# Altium integrated library RAK3172_RF_Generator.IntLib: 16 symbols
Pins are listed as number, name and electrical type; pins without a type are passive.

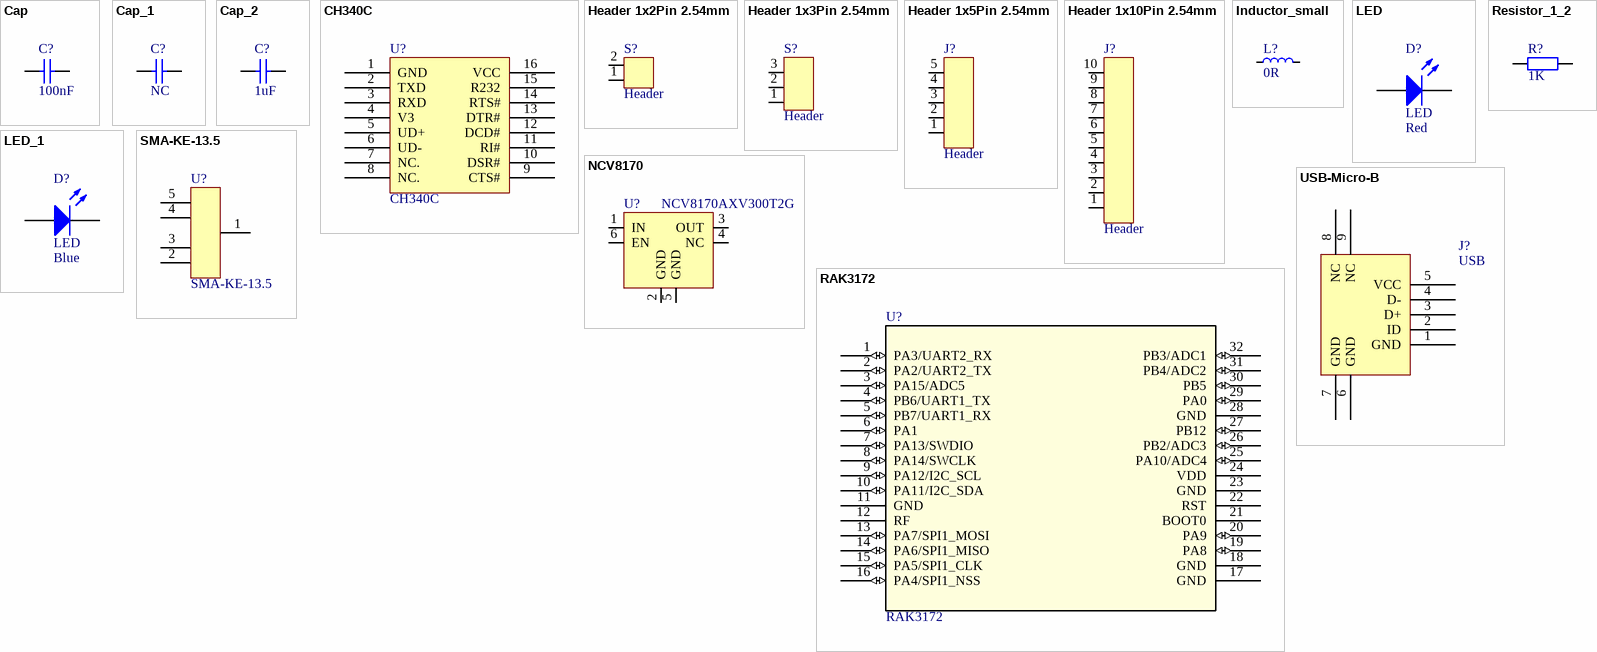
[diagram p0: symbols Cap to USB-Micro-B]

## Cap
designator C?  value 100nF  (hidden comment: Cap)
Capacitor SMD; Published: 8-Jun-2000; LatestRevisionDate: 05-oct-2007  -  Semtech; LatestRevisionNote: Re-released for DXP Platform.; Publisher: Altium Limited
simulation model CAP (Semiconductor Capacitor)
signal-integrity model Cap Semi
footprint rlc_402_smd (Chip SMD component 402; Body 1.0 x 0.5 mm (LxW typ))
footprint rlc_603_smd (Chip SMD component 603; Body 1.6 x 0.8mm (LxW typ))
footprint rlc_805_smd (Chip SMD component 805; Body 2.0 x 1.25 mm (LxW typ))
footprint rlc_1206_smd (Chip SMD component 1206; Body 3.2 x 1.6 mm (LxW typ))
footprint rlc_201_smd (Chip SMD component 201; Body 0.6 x 0.3 mm (LxW typ))
footprint rlc_201_smd_small (Chip SMD component 201; Body 0.6 x 0.3 mm (LxW typ); small footprint)
footprint rlc_805_smd (Chip SMD component 805; Body 2.0 x 1.25 mm (LxW typ))
footprint rlc_1206_smd_small (Chip SMD component 1206; Body 3.2 x 1.6 mm (LxW typ))
footprint rlc_402_smd_small (Chip SMD component 402; Body 1.0 x 0.5 mm (LxW typ);small footprint)
footprint rlc_603_smd_small (Chip SMD component 603; Body 1.6 x 0.8mm (LxW typ); small footprint)
footprint rlc_805_smd_small (Chip SMD component 805; Body 2.0 x 1.25 mm (LxW typ); small footprint)
footprint rlc_201_smd (Chip SMD component 201; Body 0.6 x 0.3 mm (LxW typ))
pins: 1, 2

## Cap_1
designator C?, comment value NC  (hidden comment: Cap)
Capacitor SMD; Published: 8-Jun-2000; LatestRevisionDate: 05-oct-2007  -  Semtech; LatestRevisionNote: Re-released for DXP Platform.; Publisher: Altium Limited
simulation model CAP (Semiconductor Capacitor)
signal-integrity model Cap Semi
footprint rlc_402_smd (Chip SMD component 402; Body 1.0 x 0.5 mm (LxW typ))
footprint rlc_603_smd (Chip SMD component 603; Body 1.6 x 0.8mm (LxW typ))
footprint rlc_805_smd (Chip SMD component 805; Body 2.0 x 1.25 mm (LxW typ))
footprint rlc_1206_smd (Chip SMD component 1206; Body 3.2 x 1.6 mm (LxW typ))
footprint rlc_201_smd (Chip SMD component 201; Body 0.6 x 0.3 mm (LxW typ))
footprint rlc_201_smd_small (Chip SMD component 201; Body 0.6 x 0.3 mm (LxW typ); small footprint)
footprint rlc_805_smd (Chip SMD component 805; Body 2.0 x 1.25 mm (LxW typ))
footprint rlc_1206_smd_small (Chip SMD component 1206; Body 3.2 x 1.6 mm (LxW typ))
footprint rlc_402_smd_small (Chip SMD component 402; Body 1.0 x 0.5 mm (LxW typ);small footprint)
footprint rlc_603_smd_small (Chip SMD component 603; Body 1.6 x 0.8mm (LxW typ); small footprint)
footprint rlc_805_smd_small (Chip SMD component 805; Body 2.0 x 1.25 mm (LxW typ); small footprint)
footprint rlc_201_smd (Chip SMD component 201; Body 0.6 x 0.3 mm (LxW typ))
pins: 1, 2

## Cap_2
designator C?, comment value 1uF  (hidden comment: Cap)
Capacitor SMD; Published: 8-Jun-2000; LatestRevisionDate: 05-oct-2007  -  Semtech; LatestRevisionNote: Re-released for DXP Platform.; Publisher: Altium Limited
simulation model CAP (Semiconductor Capacitor)
signal-integrity model Cap Semi
footprint rlc_402_smd (Chip SMD component 402; Body 1.0 x 0.5 mm (LxW typ))
footprint rlc_603_smd (Chip SMD component 603; Body 1.6 x 0.8mm (LxW typ))
footprint rlc_805_smd (Chip SMD component 805; Body 2.0 x 1.25 mm (LxW typ))
footprint rlc_1206_smd (Chip SMD component 1206; Body 3.2 x 1.6 mm (LxW typ))
footprint rlc_201_smd (Chip SMD component 201; Body 0.6 x 0.3 mm (LxW typ))
footprint rlc_201_smd_small (Chip SMD component 201; Body 0.6 x 0.3 mm (LxW typ); small footprint)
footprint rlc_805_smd (Chip SMD component 805; Body 2.0 x 1.25 mm (LxW typ))
footprint rlc_1206_smd_small (Chip SMD component 1206; Body 3.2 x 1.6 mm (LxW typ))
footprint rlc_402_smd_small (Chip SMD component 402; Body 1.0 x 0.5 mm (LxW typ);small footprint)
footprint rlc_603_smd_small (Chip SMD component 603; Body 1.6 x 0.8mm (LxW typ); small footprint)
footprint rlc_805_smd_small (Chip SMD component 805; Body 2.0 x 1.25 mm (LxW typ); small footprint)
footprint rlc_201_smd (Chip SMD component 201; Body 0.6 x 0.3 mm (LxW typ))
pins: 1, 2

## CH340C
designator U?
USB to Serial CH340 IC
footprint CH340C
pins: 1 GND, 2 TXD, 3 RXD, 4 V3, 5 UD+, 6 UD-, 7 NC., 8 NC., 9 CTS#, 10 DSR#, 11 RI#, 12 DCD#, 13 DTR#, 14 RTS#, 15 R232, 16 VCC

## Header 1x2Pin 2.54mm
designator S?, comment Header
Header 1x2Pin 2.54mm
footprint Header 1x2 Pin 2.54mm
footprint KF120-2-V (Domino 2Pin 2.54mm Pitch)
pins: 1, 2

## Header 1x3Pin 2.54mm
designator S?, comment Header
Header 1x2Pin 2.54mm
footprint KF120-3-V (Domino 2Pin 2.54mm Pitch)
footprint HEADER 1X3PIN 2.54mm
pins: 1, 2, 3

## Header 1x5Pin 2.54mm
designator J?, comment Header
Header 1x5Pin 2.54mm
footprint HEADER 1X5PIN 2.54mm
pins: 1, 2, 3, 4, 5

## Header 1x10Pin 2.54mm
designator J?, comment Header
Header 1x10Pin 2.54mm
footprint HEADER 1X10PIN 2.54mm
pins: 1, 2, 3, 4, 5, 6, 7, 8, 9, 10

## Inductor_small
designator L?, comment value 0R  (hidden comment: Inductor small symbol)
Inductor; Code_IEC: 1005; Published: 8-Jun-2000; LatestRevisionDate: 05-oct-2007  -  Semtech; LatestRevisionNote: Re-released for DXP Platform.; Publisher: Altium Limited; Code_JEITA: 0402
footprint rlc_1812_smd (Chip SMD component 1812; Body 4.5 x 3.2 mm (LxW typ))
footprint L2813
footprint L4818
footprint L4818_small (L4818 Size for LPS4018 - 3.9x3.9mm)
footprint rlc_201_smd (Chip SMD component 201; Body 0.6 x 0.3 mm (LxW typ))
footprint rlc_201_smd_small (Chip SMD component 201; Body 0.6 x 0.3 mm (LxW typ); small footprint)
footprint rlc_402_smd (Chip SMD component 402; Body 1.0 x 0.5 mm (LxW typ))
footprint rlc_402_smd_small (Chip SMD component 402; Body 1.0 x 0.5 mm (LxW typ);small footprint)
footprint rlc_603_smd (Chip SMD component 603; Body 1.6 x 0.8mm (LxW typ))
footprint rlc_603_smd_small (Chip SMD component 603; Body 1.6 x 0.8mm (LxW typ); small footprint)
footprint rlc_805_smd (Chip SMD component 805; Body 2.0 x 1.25 mm (LxW typ))
footprint rlc_805_smd_small (Chip SMD component 805; Body 2.0 x 1.25 mm (LxW typ); small footprint)
footprint rlc_1206_smd_small (Chip SMD component 1206; Body 3.2 x 1.6 mm (LxW typ))
pins: 1, 2

## LED
designator D?  value Red
LatestRevisionDate: 05-oct-2007  -  Semtech
footprint CD1005-0402 (Chip Diode; Body 1.0 x 0.5 mm (LxW typ))
footprint CD1608-0603 (Chip Diode; Body 1.6 x 0.8 mm (LxW typ))
footprint CD2012-0805 (Chip Diode; Body 2.0 x 1.3 mm (LxW typ))
footprint Reverse LED 3216 - 1206-hole round (Reverse Package Chip LED; Body 3.2 x 1.6 mm (LxW typ))
footprint Reverse LED 3216 - 1206 - hole slot (Reverse Package Chip LED; Body 3.2 x 1.6 mm (LxW typ))
footprint LGM676 LED (Chip Diode; Body 2.1 x 1.4 mm (LxW typ))
pins: 1 A, 2 K

## LED_1
designator D?, comment LED  value Blue
LatestRevisionDate: 05-oct-2007  -  Semtech
footprint CD1005-0402 (Chip Diode; Body 1.0 x 0.5 mm (LxW typ))
footprint CD1608-0603 (Chip Diode; Body 1.6 x 0.8 mm (LxW typ))
footprint CD2012-0805 (Chip Diode; Body 2.0 x 1.3 mm (LxW typ))
footprint Reverse LED 3216 - 1206-hole round (Reverse Package Chip LED; Body 3.2 x 1.6 mm (LxW typ))
footprint Reverse LED 3216 - 1206 - hole slot (Reverse Package Chip LED; Body 3.2 x 1.6 mm (LxW typ))
footprint LGM676 LED (Chip Diode; Body 2.1 x 1.4 mm (LxW typ))
pins: 1 A, 2 K

## NCV8170
designator U?, comment NCV8170AXV300T2G
Linear Voltage Regulator IC Positive Fixed 1 Output  150mA SOT-563-6
footprint SOT-563
pins: 1 IN, 2 GND, 3 OUT, 4 NC, 5 GND, 6 EN

## RAK3172
designator U?
RF IC Transceiver LoRaWAN; Mfr_Name: RAKWireless; Copyright: Copyright (C) 2023 Ultra Librarian. All rights reserved.; Manufacturer_Part_Number: RAK3172; RefDes: RefDes; Type: Type
footprint RAK3172_RAK
pins: 1 PA3/UART2_RX (io), 2 PA2/UART2_TX (io), 3 PA15/ADC5 (io), 4 PB6/UART1_TX (io), 5 PB7/UART1_RX (io), 6 PA1 (io), 7 PA13/SWDIO (io), 8 PA14/SWCLK (io), 9 PA12/I2C_SCL (io), 10 PA11/I2C_SDA (io), 11 GND (power), 12 RF, 13 PA7/SPI1_MOSI (io), 14 PA6/SPI1_MISO (io), 15 PA5/SPI1_CLK (io), 16 PA4/SPI1_NSS (io), 17 GND (power), 18 GND (power), 19 PA8 (io), 20 PA9 (io), 21 BOOT0, 22 RST, 23 GND (power), 24 VDD (power), 25 PA10/ADC4 (io), 26 PB2/ADC3 (io), 27 PB12 (io), 28 GND (power), 29 PA0 (io), 30 PB5 (io), 31 PB4/ADC2 (io), 32 PB3/ADC1 (io)

## Resistor_1_2
designator R?, comment value 1K  (hidden comment: Resistor)
Resistor SMD - IEC symbol version; LatestRevisionDate: 27-Jul-20  -  Semtech
footprint rlc_201_smd (Chip SMD component 201; Body 0.6 x 0.3 mm (LxW typ))
footprint rlc_402_smd (Chip SMD component 402; Body 1.0 x 0.5 mm (LxW typ))
footprint rlc_603_smd (Chip SMD component 603; Body 1.6 x 0.8mm (LxW typ))
footprint rlc_805_smd (Chip SMD component 805; Body 2.0 x 1.25 mm (LxW typ))
footprint rlc_1206_smd (Chip SMD component 1206; Body 3.2 x 1.6 mm (LxW typ))
footprint rlc_201_smd_small (Chip SMD component 201; Body 0.6 x 0.3 mm (LxW typ); small footprint)
footprint rlc_402_smd_small (Chip SMD component 402; Body 1.0 x 0.5 mm (LxW typ);small footprint)
footprint rlc_603_smd_small (Chip SMD component 603; Body 1.6 x 0.8mm (LxW typ); small footprint)
footprint rlc_805_smd_small (Chip SMD component 805; Body 2.0 x 1.25 mm (LxW typ); small footprint)
footprint rlc_1206_smd_small (Chip SMD component 1206; Body 3.2 x 1.6 mm (LxW typ))
pins: 1, 2

## SMA-KE-13.5
designator U?
footprint SMA-KE-13.5
pins: 1, 2, 3, 4, 5

## USB-Micro-B
designator J?, comment USB
MicroUSB 5pin TypeB SMD; ComponentLink1Description: Thegioiic; ComponentLink1URL: https://thegioiic.com/products/cong-usb-micro-b-dau-cai-5pin-smd-v1
footprint USB-Micro-B (MicroUSB 5pin TypeB SMD)
pins: 1 GND, 2 ID, 3 D+, 4 D-, 5 VCC, 6 GND, 7 GND, 8 NC, 9 NC